# EAGLE library part RA_8 (library PASSIVES)
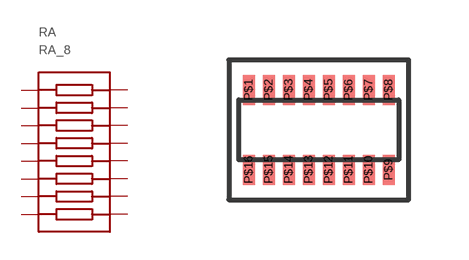
[diagram p1: symbol with the pads of CAT16_ARRAY; footprint CAT16_ARRAY]

Designator prefix RA

## RA_8  [CAT16_ARRAY]
P$1  1
P$2  2
P$3  3
P$4  4
P$5  5
P$6  6
P$7  7
P$8  8
P$9  9
P$10  10
P$11  11
P$12  12
P$13  13
P$14  14
P$15  15
P$16  16

## Footprint CAT16_ARRAY (pad centres in mm)
smd 0.3 x 0.75: P$1 -1.75,1; P$2 -1.25,1; P$3 -0.75,1; P$4 -0.25,1; P$5 0.25,1; P$6 0.75,1; P$7 1.25,1; P$8 1.75,1; P$9 1.75,-1; P$10 1.25,-1; P$11 0.75,-1; P$12 0.25,-1; P$13 -0.25,-1; P$14 -0.75,-1; P$15 -1.25,-1; P$16 -1.75,-1